# Altium schematic symbol library sk7shared.SchLib: 23 symbols
Pins are listed as number, name and electrical type; pins without a type are passive.

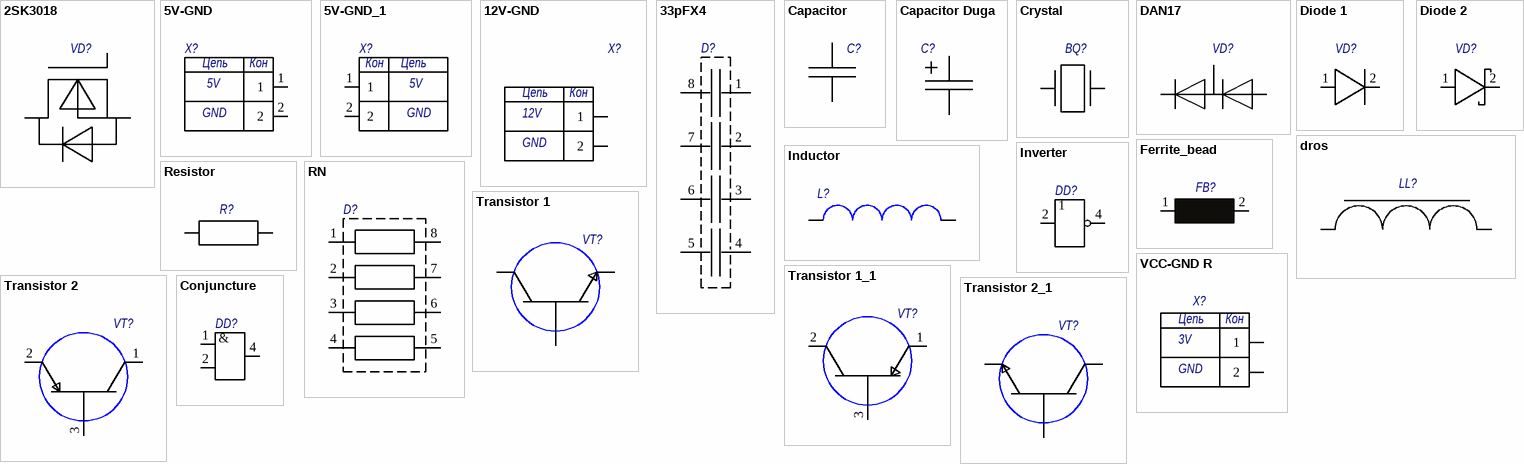
[diagram p0: symbols 2SK3018 to Сonjuncture]

## 2SK3018
designator VD?  (value not drawn)
footprint DAT17 (SOT223, 3-Leads, Body 2,20x1,90mm (avg), Pitch 1,40mm, IPC Medium Density)
pins: 1, 2, 3

## 5V-GND
designator X?  (value not drawn)
footprint VCC-GND
pins: 1, 2
text: Цепь; Кон; 5V; GND

## 5V-GND_1
designator X?  (value not drawn)
footprint VCC-GND
pins: 1, 2
text: Кон; Цепь; 5V; GND

## 12V-GND
designator X?  (value not drawn)
footprint VCC-GND
pins: 1, 2
text: Цепь; Кон; 12V; GND

## 33pFX4
designator D?  (value not drawn)
Model: *
footprint 33pFX4
pins: 1, 2, 3, 4, 5, 6, 7, 8

## Capacitor
designator C?  (value not drawn)
Model: *
footprint cap(0603)
footprint cap(0805)1UF
footprint cap(1206)10UF
pins: 1, 2

## Capacitor Duga
designator C?  (value not drawn)
Model: *
footprint Capacitor 0805
pins: 1, 2

## Crystal
designator BQ?  (value not drawn)
footprint Crystal
pins: 1, 2

## DAN17
designator VD?  (value not drawn)
footprint DAT17 (SOT223, 3-Leads, Body 2,20x1,90mm (avg), Pitch 1,40mm, IPC Medium Density)
pins: 1, 2, 3

## Diode 1
designator VD?  (value not drawn)
Model: *
footprint Diode
pins: 1, 2

## Diode 2
designator VD?  (value not drawn)
Model: *
footprint Diode
pins: 1, 2

## dros
designator LL?  (value not drawn)
footprint dros (SODFL, 2-Leads, Body 6,00x13,20mm, IPC Medium Density)
pins: 1, 2

## Ferrite_bead
designator FB?  (value not drawn)
Model: *
footprint FERRITE BEAD (Chip 2-Leads, Body 4,50x1,80mm, IPC Medium Density)
pins: 1, 2

## Inductor
designator L?  (value not drawn)
Model: *
footprint Inductor 2520
pins: 1, 2

## Inverter
designator DD?  (value not drawn)
footprint Inverter
footprint Inv
pins: 1 NC hidden, 2, 3 GND hidden to GND, 4, 5 VCC (power) hidden to VCC

## Resistor
designator R?  (value not drawn)
Model: *
footprint Resistor 1206
pins: 1, 2

## RN
designator D?  (value not drawn)
footprint RN (Chip Array, Flat, 8-Leads, Pitch 1,25mm,  Body 4,65x3,70mm,  IPC Medium Density)
pins: 1, 2, 3, 4, 5, 6, 7, 8

## Transistor 1
designator VT?  (value not drawn)
footprint Transistor 1
pins: 1 KOLLECTOR, 2 EMITTER, 3 BAZA

## Transistor 1_1
designator VT?  (value not drawn)
footprint Transistor 1
pins: 1 KOLLECTOR, 2 EMITTER, 3 BAZA

## Transistor 2
designator VT?  (value not drawn)
footprint Transistor 1
pins: 1 KOLLECTOR, 2 EMITTER, 3 BAZA

## Transistor 2_1
designator VT?  (value not drawn)
footprint Transistor 1
pins: 1 KOLLECTOR, 2 EMITTER, 3 BAZA

## VCC-GND R
designator X?  (value not drawn)
footprint VCC-GND
pins: 1, 2
text: Цепь; Кон; 3V; GND

## Сonjuncture
designator DD?  (value not drawn)
footprint Conjuncture
pins: 1, 2, 3 GND hidden to GND, 4, 5 VCC (power) hidden to VCC, 6 NC hidden
text: &